# EAGLE library part MCP23S08 (library ic)
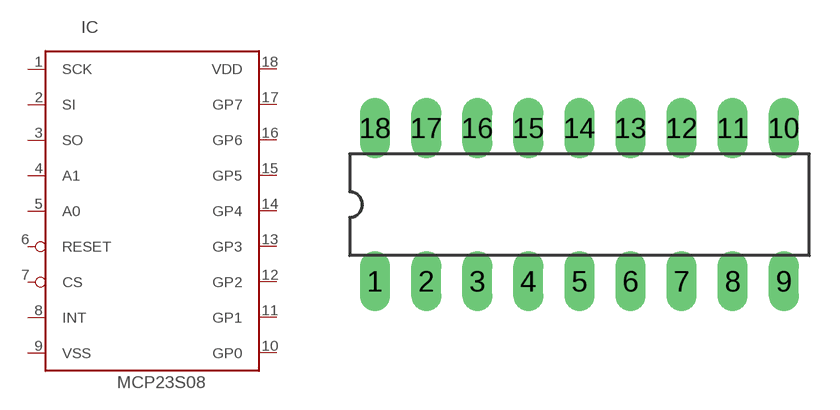
[diagram p10: symbol with the pads of 18PIN; footprint 18PIN]

Designator prefix IC

## MCP23S08  [18PIN]
1  SCK  pas
2  SI  pas
3  SO  pas
4  A1  pas
5  A0  pas
6  RESET  pas
7  CS  pas
8  INT  pas
9  VSS  pas
10  GP0  pas
11  GP1  pas
12  GP2  pas
13  GP3  pas
14  GP4  pas
15  GP5  pas
16  GP6  pas
17  GP7  pas
18  VDD  pas

## Footprint 18PIN (pad centres in mm)
18pin
drill 0.8 pad 1.499 long: 1 -10.16,-3.81; 2 -7.62,-3.81; 3 -5.08,-3.81; 4 -2.54,-3.81; 5 0,-3.81; 6 2.54,-3.81; 7 5.08,-3.81; 8 7.62,-3.81; 9 10.16,-3.81; 10 10.16,3.81; 11 7.62,3.81; 12 5.08,3.81; 13 2.54,3.81; 14 0,3.81; 15 -2.54,3.81; 16 -5.08,3.81; 17 -7.62,3.81; 18 -10.16,3.81